# Altium footprint library esp.PcbLib: 1 footprints
Each footprint in its own frame and in the unit in brackets; x right, y up, seen from the top. Pads: shape width x height; smd on the part's side, far side on the other; paste and mask are expansions set on the pad; w line width, h text height; cw(c..) or ccw(c..) is an arc to the next point about the centre after c.
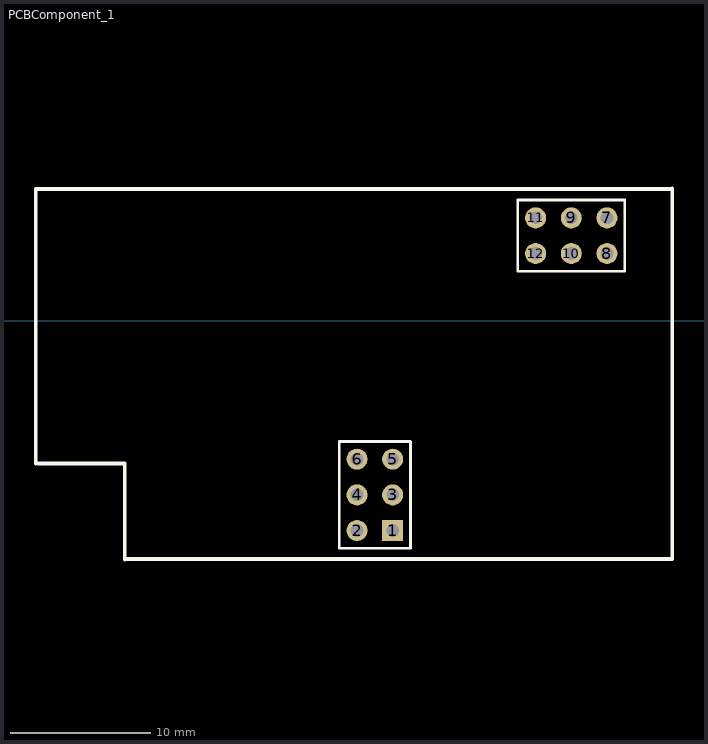
[diagram p0: the footprint, top view; thin cyan lines are the x and y axes]

## PCBComponent_1 [mm]
pads (12):
  rect 1.5x1.5 hole 0.9: 1(84.226,-14.935)
  round 1.5 hole 0.9: 2(81.686,-14.935) 3(84.226,-12.395) 4(81.686,-12.395) 5(84.226,-9.855) 6(81.686,-9.855) 7(99.492,7.341) 8(99.492,4.801) 9(96.952,7.341) 10(96.952,4.801) 11(94.412,7.341) 12(94.412,4.801)
Top Overlay:
  lines w0.2: 85.496,-13.454 85.496,-8.585 ; 98.01,8.611 93.142,8.611 ; 85.496,-8.585 85.496,-16.205 80.416,-16.205 80.416,-8.585 85.496,-8.585 ; 93.142,8.611 100.762,8.611 100.762,3.531 93.142,3.531 93.142,8.611
  lines w0.254: 58.801,-10.16 58.801,4.508 58.801,9.398 104.14,9.398 ; 58.928,-10.16 65.151,-10.16 65.151,-17.018 ; 65.202,-16.967 104.115,-16.967 ; 104.14,-16.967 104.14,9.449